# Altium footprint library PS7801.PcbLib: 1 footprints
Each footprint in its own frame and in the unit in brackets; x right, y up, seen from the top. Pads: shape width x height; smd on the part's side, far side on the other; paste and mask are expansions set on the pad; w line width, h text height; cw(c..) or ccw(c..) is an arc to the next point about the centre after c.
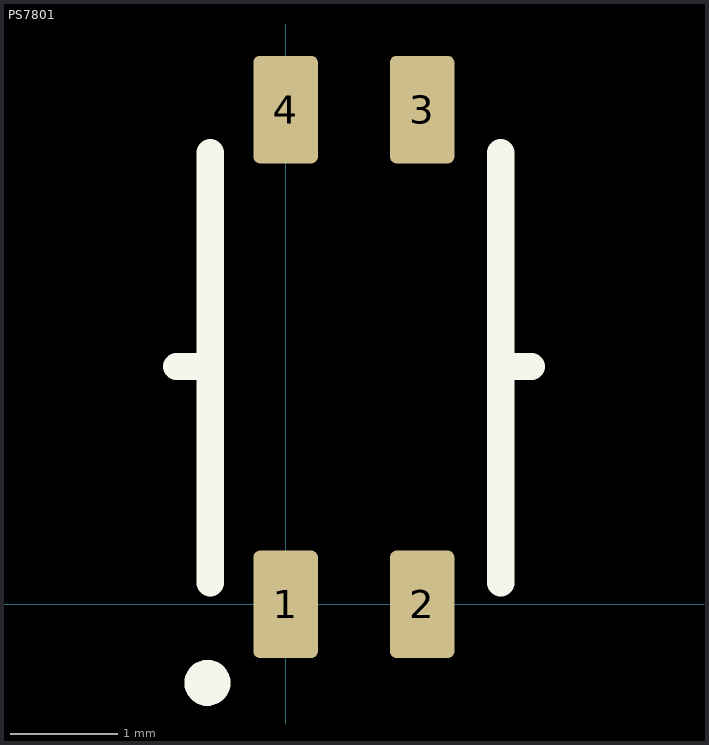
[diagram p0: the footprint, top view; thin cyan lines are the x and y axes]

## PS7801 [mm]
pads (4):
  rrect20% 0.6x1 smd: 1(0,0) 2(1.27,0) 3(1.27,4.6) 4(0,4.6)
TopOverlay:
  circle w0.254: c-0.727,-0.73 r0.087
  lines w0.254: -1.015,2.212 -0.7,2.212 ; -0.7,0.2 -0.7,4.2 ; 2,0.2 2,4.2 ; 2,2.212 2.287,2.212
3D body: height 1.85, standoff 0, extent -0.402,-0.602 1.672,5.202